# EAGLE library part M04X2 (library Robot)
8-PIN DUAL ROW HEADER Standard 8-pin dual row 0.1" header.
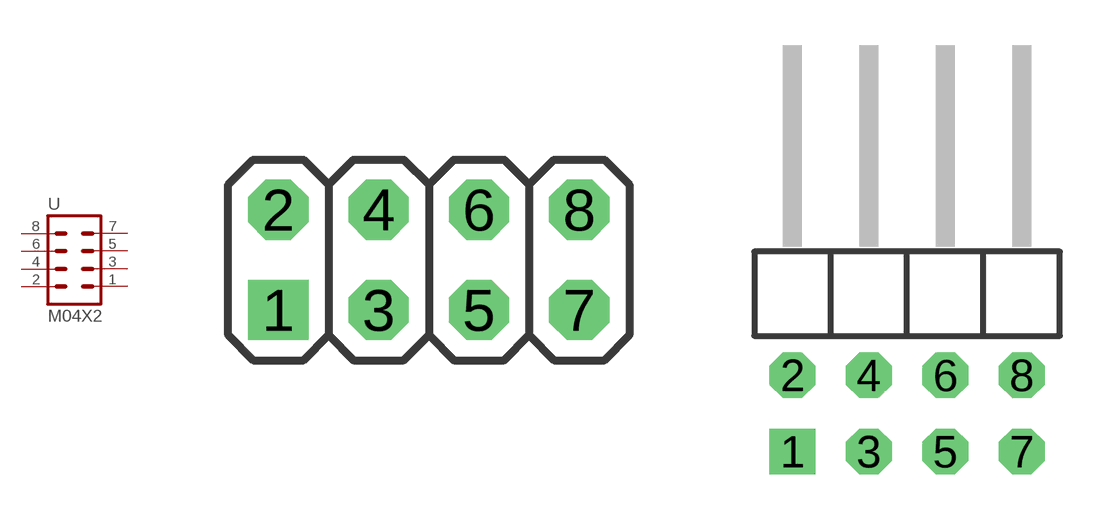
[diagram p19: symbol with the pads of 2X04; footprints 2X04, 2X04/90]

Designator prefix -

## M04X2PTH  [2X04]
1  1  pas
2  2  pas
3  3  pas
4  4  pas
5  5  pas
6  6  pas
7  7  pas
8  8  pas

## M04X2PTH90  [2X04/90]
Pads as for 2X04

## Footprint 2X04 (pad centres in mm)
PIN HEADER (2X04, 0.1" spaced, 8mil silkscreen)
drill 1.016 square: 1 -3.81,-1.27
drill 1.016 octagon: 2 -3.81,1.27; 3 -1.27,-1.27; 4 -1.27,1.27; 5 1.27,-1.27; 6 1.27,1.27; 7 3.81,-1.27; 8 3.81,1.27

## Footprint 2X04/90 (pad centres in mm)
PIN HEADER (2X04, 0.1" spaced, 90°, 8mil silkscreen) This is based on the AMPMODU II Datasheet (TYCO / AMP 5-826634-0) Farnell: 3418650
drill 1.016 square: 1 -3.81,-1.28
drill 1.016 octagon: 2 -3.81,1.26; 3 -1.27,-1.28; 4 -1.27,1.26; 5 1.27,-1.28; 6 1.27,1.26; 7 3.81,-1.28; 8 3.81,1.26